# EAGLE library part MAGI³C-VDLM_LGA-16EP_171031801 (library Wurth_Step Down Converter_MagI³C-VDLM)
MagI³C-VDLM Variable Step Down LGA Module Characteristics Low conducted and radiated EMI (compliant to EN55022 class B / CISPR-22) LGA-16EP Low profile LGA-package Stand alone solution (CIN and COUT integrated, 2 external components to set VOUT) Ideal for space constrained applications 2 solder cycles supported Applications Point-of-Load DC-DC applications from 18V, 15V, 12V, 9V, 5V industrial rails Test and measurement equipment Medical equipment Interface supply Supply of microcontrollers, microprocessors, DSPs, FPGAs Industrial electronics Telecommunications <https://www.we-online.com/catalog/media/o683498v209%20171031801_multi-parts.jpg> Details see: https://www.we-online.com/catalog/en/MAGIC-VDLM Updated by Ella Wu 2022-03-30 2022(C) Wurth Elektronik
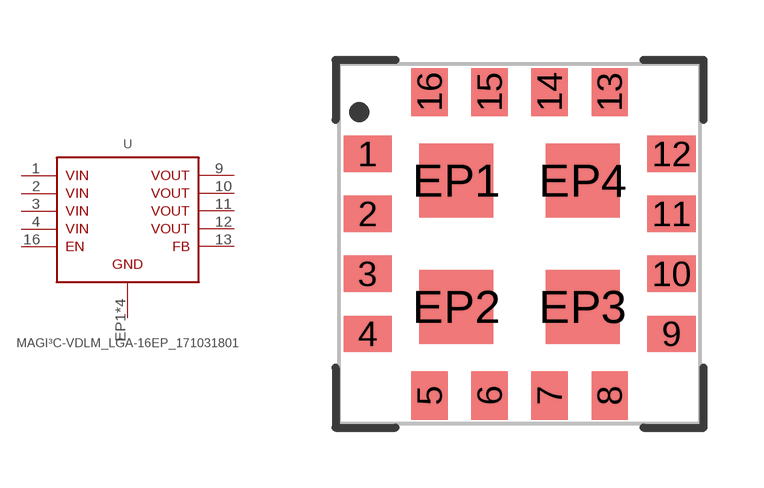
[diagram p1: symbol with the pads of MAGI³C-VDLM_LGA-16EP; footprint MAGI³C-VDLM_LGA-16EP]

Designator prefix U

## MAGI³C-VDLM_LGA-16EP_171031801 (DATASHEET-URL: https://www.we-online.com/catalog/datasheet/171031801.pdf; I-OUTPUT: 3A; MOUNT: SMT; PART-NUMBER: 171031801; V-INPUT: 4-18V; V-OUTPUT: 0.8-17V; VALUE: 171031801)  [MAGI³C-VDLM_LGA-16EP]
1  VIN1  pwr
2  VIN2  pwr
3  VIN3  pwr
4  VIN4  pwr
9  9VOUT  pwr
10  10VOUT  pwr
11  11VOUT  pwr
12  12VOUT  pwr
13  13FB  in
16  16EN  in
EP1  GND  pas
EP2  GND  pas
EP3  GND  pas
EP4  GND  pas

## Footprint MAGI³C-VDLM_LGA-16EP (pad centres in mm)
MagI³C-VDLM Variable Step Down LGA Module Size : LGA-16EP, SMT LxWxH=9mm x 9mm x 3mm
smd 1.2 x 0.9: 1 -3.8,2.25; 2 -3.8,0.75; 3 -3.8,-0.75; 4 -3.8,-2.25; 9 3.8,-2.25; 10 3.8,-0.75; 11 3.8,0.75; 12 3.8,2.25
smd 0.9 x 1.2: 5 -2.25,-3.8; 6 -0.75,-3.8; 7 0.75,-3.8; 8 2.25,-3.8; 13 2.25,3.8; 14 0.75,3.8; 15 -0.75,3.8; 16 -2.25,3.8
smd 1.85 x 1.85: EP1 -1.58,1.58; EP2 -1.58,-1.58; EP3 1.58,-1.58; EP4 1.58,1.58